# Altium footprint library SDR0805.PcbLib: 1 footprints
Each footprint in its own frame and in the unit in brackets; x right, y up, seen from the top. Pads: shape width x height; smd on the part's side, far side on the other; paste and mask are expansions set on the pad; w line width, h text height; cw(c..) or ccw(c..) is an arc to the next point about the centre after c.
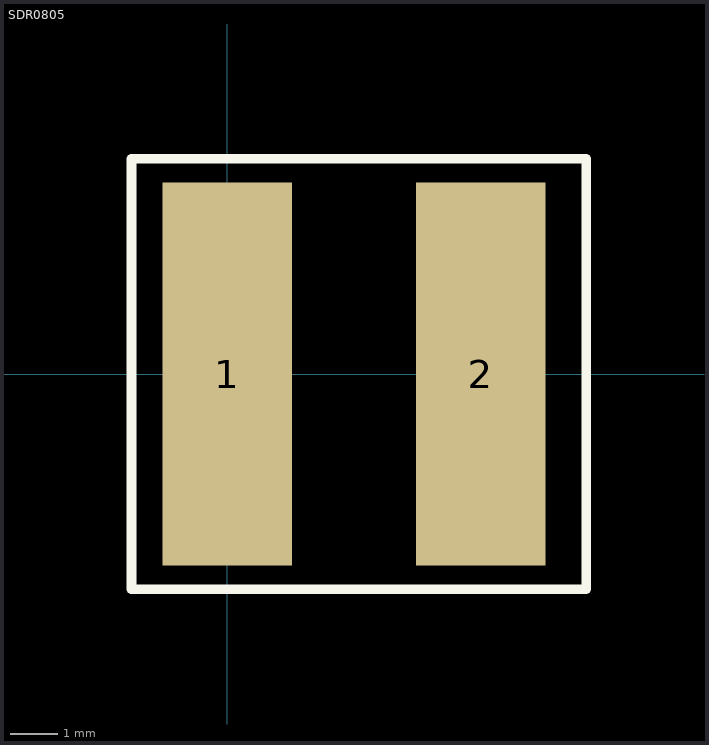
[diagram p0: the footprint, top view; thin cyan lines are the x and y axes]

## SDR0805 [mm]
pads (2):
  rect 2.7x8 smd: 1(0,0) 2(5.3,0)
Top Overlay:
  lines w0.2: -2,-4.5 -2,4.5 7.5,4.5 7.5,-4.5 -2,-4.5
3D body "SDR0805.STEP": height 5.4, standoff 0.1, extent -1.275,-3.9 6.525,3.9